# EAGLE library part BQ32000DR (library RTC)
IC RTC CLK/CALENDAR I2C 8-SOIC Manufacturer's datasheet <https://www.ti.com/lit/ds/symlink/bq32000.pdf?HQS=TI-null-null-digikeymode-df-pf-null-wwe&ts=1592285475650>
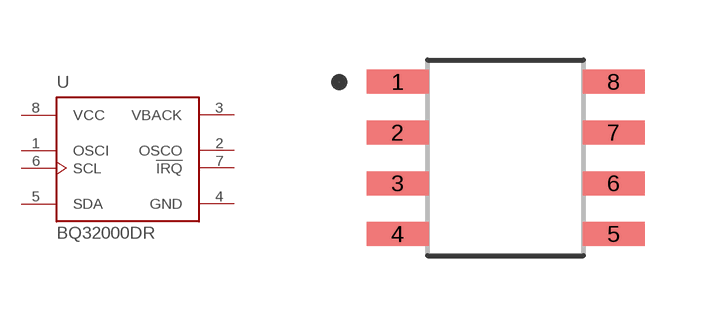
[diagram p1: symbol with the pads of BQ32000DR; footprint BQ32000DR]

Designator prefix U

## BQ32000DR (CREATED_BY: PCBLayout.com; DIGIKEY_PARTNO: 296-24583-1-ND; MANUFACTURER: Texas Instruments; MPN: BQ32000DR; PACKAGE: 8-SOIC)  [BQ32000DR]
1  OSCI  in
2  OSCO  out
3  VBACK  pwr
4  GND  pwr
5  SDA
6  SCL  in
7  !IRQ  out
8  VCC  pwr

## Footprint BQ32000DR (pad centres in mm)
smd 1.55 x 0.6: 1 -2.7,1.905; 2 -2.7,0.635; 3 -2.7,-0.635; 4 -2.7,-1.905; 5 2.7,-1.905; 6 2.7,-0.635; 7 2.7,0.635; 8 2.7,1.905